# EAGLE library part DMN3135LVT (library NicksParts)
Diodes Inc, dual package N-channel MOSFET. 30V Logic level inputs 60 mOhms RDSon
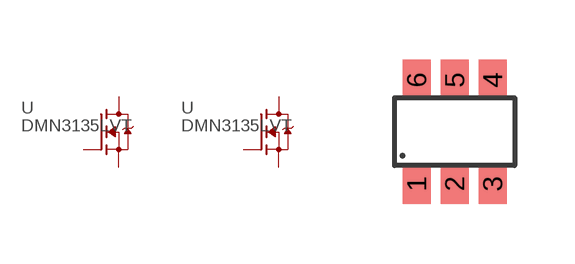
[diagram p14: symbol with the pads of SOT-23-6; footprint SOT-23-6]

Designator prefix U

## DMN3135LVT  [SOT-23-6]
1  G1  pas
2  S2  pas
3  G2  pas
4  D2  pas
5  S1  pas
6  D1  pas

## Footprint SOT-23-6 (pad centres in mm)
smd 0.7 x 1: 1 -0.95,-1.3; 2 0,-1.3; 3 0.95,-1.3; 4 0.95,1.3; 5 0,1.3; 6 -0.95,1.3